# Altium footprint library CT1273.PcbLib: 1 footprints
Each footprint in its own frame and in the unit in brackets; x right, y up, seen from the top. Pads: shape width x height; smd on the part's side, far side on the other; paste and mask are expansions set on the pad; w line width, h text height; cw(c..) or ccw(c..) is an arc to the next point about the centre after c.
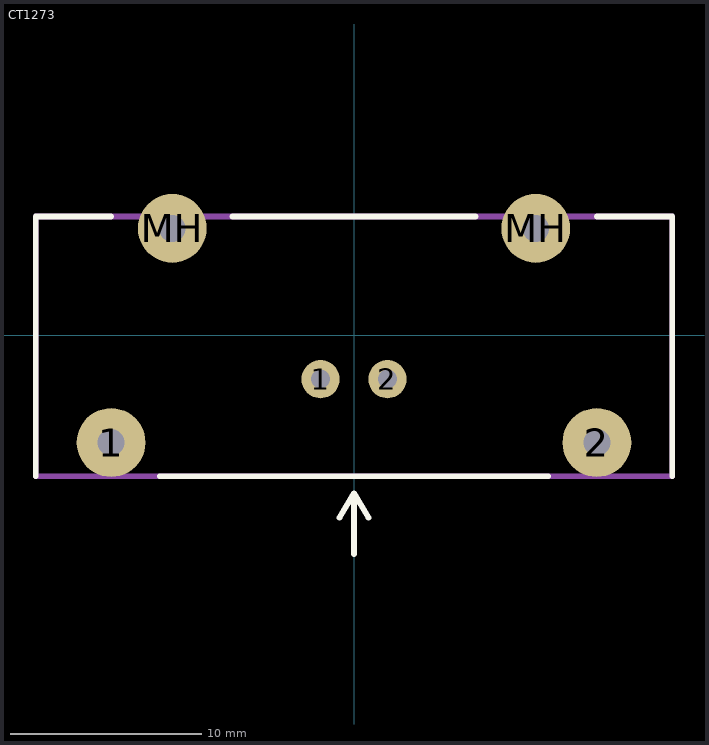
[diagram p0: the footprint, top view; thin cyan lines are the x and y axes]

## CT1273 [mm]
pads (6):
  round 3.6 hole 1.4: 1(-12.7,-5.6) 2(12.7,-5.6) MH(-9.5,5.6) MH(9.5,5.6)
  round 2 hole 1: 1(-1.75,-2.286) 2(1.75,-2.286)
Top Overlay:
  lines w0.3: -16.637,-7.366 -16.637,6.223 -12.7,6.223 ; -10.16,-7.366 10.16,-7.366 ; -6.35,6.223 6.35,6.223 ; -0.762,-9.525 0,-8.255 ; 0,-11.43 0,-8.255 ; 0.762,-9.525 0,-8.255 ; 12.7,6.223 16.637,6.223 16.637,-7.366
Mechanical 13:
  lines w0.3: -16.637,-7.366 -16.637,6.223 16.637,6.223 16.637,-7.366 -16.637,-7.366
  text ".Designator" at -2.6,-3.98 h2.5
3D body: height 34.75, standoff -2.65, extent -16.75,-7.366 16.75,6.234